# EAGLE library part IIS328DQ (library Accelerometer)
ACCELEROMETER 2-8G I2C/SPI 24QFN Accelerometer X, Y, Z Axis ±2g, 4g, 8g 25Hz ~ 500Hz 24-QFN (4x4) Features: Wide supply range: 2.16V to 3.6V Low voltagecompatible IOs: 1.8V Ultra-low power consumption: down to 10μA ±2g/±4g/±8g dynamically selectable full-scale SPI / I2C digital output interface 16-bit data output 2 independent programmable interrupt generators System sleep/wakeup function Extended temperature range: -40°C to 105°C Embedded self-test High shock survivability: up to 10000g ST Product Page <http://www.st.com/en/mems-and-sensors/iis328dq.html> | Datasheet <http://www.st.com/content/ccc/resource/technical/document/datasheet/24/b9/50/c5/61/ae/4d/58/DM00150114.pdf/files/DM00150114.pdf/jcr:content/translations/en.DM00150114.pdf>
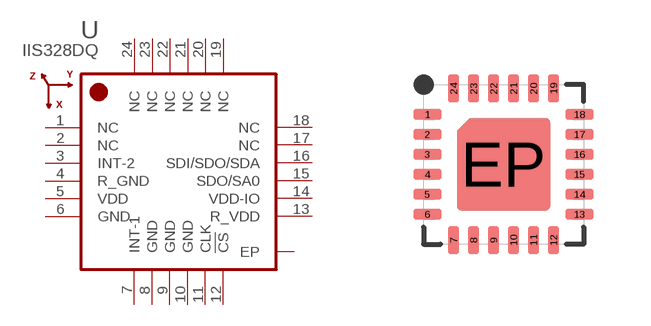
[diagram p5: symbol with the pads of QFN24P50_4X4X1.8; footprint QFN24P50_4X4X1.8]

Designator prefix U

## IIS328DQ (DATASHEET: https://goo.gl/ZnWVyv; DESC: ACCELEROMETER 2-8G I2C/SPI 24QFN; MANF: STMicroelectronics; MFPN: IIS328DQ; PARTNO: NEW; STATUS: Active)  [QFN24P50_4X4X1.8]
1  NC  nc
2  NC  nc
3  INT-2  out
4  R_GND  pwr
5  VDD  pwr
6  GND  pwr
7  INT-1  out
8  GND  pwr
9  GND  pwr
10  GND  pwr
11  CLK  in
12  !CS!  in
13  R_VDD  pwr
14  VDD-IO  pwr
15  SDO/SA0  out
16  SDI/SDO/SDA
17  NC  nc
18  NC  nc
19  NC  nc
20  NC  nc
21  NC  nc
22  NC  nc
23  NC  nc
24  NC  nc
EP  EP  pwr

## Footprint QFN24P50_4X4X1.8 (pad centres in mm)
Quad Flat No-Lead, 0.50 mm pitch, 6 pin X 6 pin, 4 mm L X 4 mm W X 1.85 mm H body
smd 0.71 x 0.27: 1 -1.9,1.25; 2 -1.9,0.75; 3 -1.9,0.25; 4 -1.9,-0.25; 5 -1.9,-0.75; 6 -1.9,-1.25; 13 1.9,-1.25; 14 1.9,-0.75; 15 1.9,-0.25; 16 1.9,0.25; 17 1.9,0.75; 18 1.9,1.25
smd 0.27 x 0.71: 7 -1.25,-1.9; 8 -0.75,-1.9; 9 -0.25,-1.9; 10 0.25,-1.9; 11 0.75,-1.9; 12 1.25,-1.9; 19 1.25,1.9; 20 0.75,1.9; 21 0.25,1.9; 22 -0.25,1.9; 23 -0.75,1.9; 24 -1.25,1.9
smd 1.7 x 1.7: EP 0,0